# EAGLE library part TPS6213* (library ic-TI)
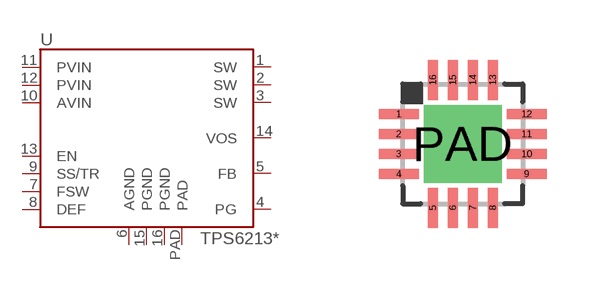
[diagram p27: symbol with the pads of QFN16-0.5; footprint QFN16-0.5]

Designator prefix U

## TPS62130 (VOLTAGE: ADJ), TPS62131 (VOLTAGE: 1.8), TPS62132 (VOLTAGE: 3.3), TPS62133 (VOLTAGE: 5.0)  [QFN16-0.5]
1  SW
2  SW
3  SW
4  PG
5  FB
6  AGND
7  FSW
8  DEF
9  SS/TR
10  AVIN
11  PVIN
12  PVIN
13  EN
14  VOS
15  PGND
16  PGND
PAD  PAD

## Footprint QFN16-0.5 (pad centres in mm)
smd 1 x 0.25: 1 -1.6,0.75; 2 -1.6,0.25; 3 -1.6,-0.25; 4 -1.6,-0.75; 9 1.6,-0.75; 10 1.6,-0.25; 11 1.6,0.25; 12 1.6,0.75
smd 0.25 x 1: 5 -0.75,-1.6; 6 -0.25,-1.6; 7 0.25,-1.6; 8 0.75,-1.6; 13 0.75,1.6; 14 0.25,1.6; 15 -0.25,1.6; 16 -0.75,1.6
drill 1.3 pad 1.7 square: PAD 0,0